# Altium integrated library Diodes - TVS.IntLib: 5379 symbols (part 5 of 122)
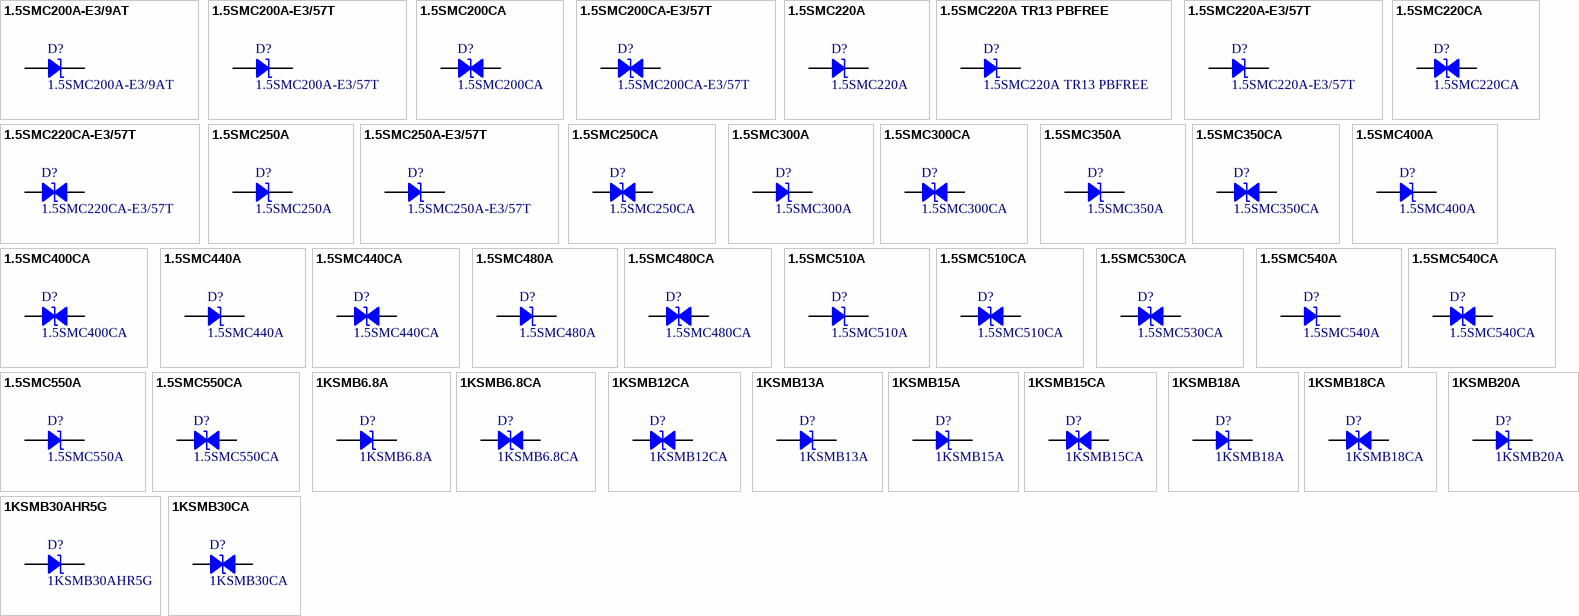
[diagram p138: symbols 1.5SMC200A-E3/9AT to 1KSMB30CA]

## 1.5SMC300CA
designator D?
TVS DIODE 256V 414V DO214AB; Manufacturer: Littelfuse Inc.; Bidirectional Channels: 1; Current - Peak Pulse (10/1000µs): 3.7A; Power Line Protection: No; Power - Peak Pulse: 1500W (1.5kW); Type: Zener; Voltage - Breakdown (Min): 285V; Part Number: 1.5SMC300CA; Applications: General Purpose; ComponentLink1Description: Datasheet; ComponentLink1URL: https://www.littelfuse.com/~/media/electronics/datasheets/tvs_diodes/littelfuse_tvs_diode_1_5smc_datasheet.pdf.pdf; ComponentLink2Description: DigiKey Link; ComponentLink2URL: http://digikey.com/product-detail/en/littelfuse-inc/1.5SMC300CA/1.5SMC300CACT-ND/2770259; LastUpdated: 9/2/2020 1:28:06 AM; Lifecycle Status: Active; Minimum Order: 1; Mounting Type: Surface Mount; Operating Temperature: -55°C ~ 150°C (TJ); Package / Case: DO-214AB, SMC; Packaging: TapeAndReel; PartId: 8450; Part Status: Active; Price: 0.36; Series: 1.5SMC; Supplier 1: DigiKey; Supplier Part Number 1: 1.5SMC300CACT-ND; Supplier Device Package: DO-214AB (SMCJ); Voltage - Clamping (Max) @ Ipp: 414V; Voltage - Reverse Standoff (Typ): 256V
footprint DO214AB SMC
pins: 1, 2

## 1.5SMC350A
designator D?
TVS DIODE 300V 482V DO214AB; Manufacturer: Littelfuse Inc.; Current - Peak Pulse (10/1000µs): 3.2A; Power Line Protection: No; Power - Peak Pulse: 1500W (1.5kW); Type: Zener; Unidirectional Channels: 1; Voltage - Breakdown (Min): 332V; Part Number: 1.5SMC350A; Applications: General Purpose; ComponentLink1Description: Datasheet; ComponentLink1URL: https://www.littelfuse.com/~/media/electronics/datasheets/tvs_diodes/littelfuse_tvs_diode_1_5smc_datasheet.pdf.pdf; ComponentLink2Description: DigiKey Link; ComponentLink2URL: http://digikey.com/product-detail/en/littelfuse-inc/1.5SMC350A/1.5SMC350ACT-ND/2745253; LastUpdated: 9/2/2020 1:19:59 AM; Lifecycle Status: Active; Minimum Order: 1; Mounting Type: Surface Mount; Operating Temperature: -55°C ~ 150°C (TJ); Package / Case: DO-214AB, SMC; Packaging: TapeAndReel; PartId: 6355; Part Status: Active; Price: 0.37; Series: 1.5SMC; Supplier 1: DigiKey; Supplier Part Number 1: 1.5SMC350ACT-ND; Supplier Device Package: DO-214AB (SMCJ); Voltage - Clamping (Max) @ Ipp: 482V; Voltage - Reverse Standoff (Typ): 300V
footprint DO214AB SMC
pins: 1, 2

## 1.5SMC350CA
designator D?
TVS DIODE 300V 482V DO214AB; Manufacturer: Littelfuse Inc.; Bidirectional Channels: 1; Current - Peak Pulse (10/1000µs): 3.2A; Power Line Protection: No; Power - Peak Pulse: 1500W (1.5kW); Type: Zener; Voltage - Breakdown (Min): 332V; Part Number: 1.5SMC350CA; Applications: General Purpose; ComponentLink1Description: Datasheet; ComponentLink1URL: https://www.littelfuse.com/~/media/electronics/datasheets/tvs_diodes/littelfuse_tvs_diode_1_5smc_datasheet.pdf.pdf; ComponentLink2Description: DigiKey Link; ComponentLink2URL: http://digikey.com/product-detail/en/littelfuse-inc/1.5SMC350CA/1.5SMC350CACT-ND/2770260; LastUpdated: 9/2/2020 1:28:04 AM; Lifecycle Status: Active; Minimum Order: 1; Mounting Type: Surface Mount; Operating Temperature: -55°C ~ 150°C (TJ); Package / Case: DO-214AB, SMC; Packaging: TapeAndReel; PartId: 8265; Part Status: Active; Price: 0.40; Series: 1.5SMC; Supplier 1: DigiKey; Supplier Part Number 1: 1.5SMC350CACT-ND; Supplier Device Package: DO-214AB (SMCJ); Voltage - Clamping (Max) @ Ipp: 482V; Voltage - Reverse Standoff (Typ): 300V
footprint DO214AB SMC
pins: 1, 2

## 1.5SMC400A
designator D?
TVS DIODE 342V 548V DO214AB; Manufacturer: Littelfuse Inc.; Current - Peak Pulse (10/1000µs): 2.8A; Power Line Protection: No; Power - Peak Pulse: 1500W (1.5kW); Type: Zener; Unidirectional Channels: 1; Voltage - Breakdown (Min): 380V; Part Number: 1.5SMC400A; Applications: General Purpose; ComponentLink1Description: Datasheet; ComponentLink1URL: https://www.littelfuse.com/~/media/electronics/datasheets/tvs_diodes/littelfuse_tvs_diode_1_5smc_datasheet.pdf.pdf; ComponentLink2Description: DigiKey Link; ComponentLink2URL: http://digikey.com/product-detail/en/littelfuse-inc/1.5SMC400A/1.5SMC400ACT-ND/2770261; LastUpdated: 9/2/2020 1:20:04 AM; Lifecycle Status: Active; Minimum Order: 1; Mounting Type: Surface Mount; Operating Temperature: -55°C ~ 150°C (TJ); Package / Case: DO-214AB, SMC; Packaging: TapeAndReel; PartId: 6858; Part Status: Active; Price: 0.37; Series: 1.5SMC; Supplier 1: DigiKey; Supplier Part Number 1: 1.5SMC400ACT-ND; Supplier Device Package: DO-214AB (SMCJ); Voltage - Clamping (Max) @ Ipp: 548V; Voltage - Reverse Standoff (Typ): 342V
footprint DO214AB SMC
pins: 1, 2

## 1.5SMC400CA
designator D?
TVS DIODE 342V 548V DO214AB; Manufacturer: Littelfuse Inc.; Bidirectional Channels: 1; Current - Peak Pulse (10/1000µs): 2.8A; Power Line Protection: No; Power - Peak Pulse: 1500W (1.5kW); Type: Zener; Voltage - Breakdown (Min): 380V; Part Number: 1.5SMC400CA; Applications: General Purpose; ComponentLink1Description: Datasheet; ComponentLink1URL: https://www.littelfuse.com/~/media/electronics/datasheets/tvs_diodes/littelfuse_tvs_diode_1_5smc_datasheet.pdf.pdf; ComponentLink2Description: DigiKey Link; ComponentLink2URL: http://digikey.com/product-detail/en/littelfuse-inc/1.5SMC400CA/1.5SMC400CACT-ND/2770262; LastUpdated: 9/2/2020 1:28:02 AM; Lifecycle Status: Active; Minimum Order: 1; Mounting Type: Surface Mount; Operating Temperature: -55°C ~ 150°C (TJ); Package / Case: DO-214AB, SMC; Packaging: Unknown; PartId: 8001; Part Status: Active; Price: 0.29; Series: 1.5SMC; Supplier 1: DigiKey; Supplier Part Number 1: 1.5SMC400CACT-ND; Supplier Device Package: DO-214AB (SMCJ); Voltage - Clamping (Max) @ Ipp: 548V; Voltage - Reverse Standoff (Typ): 342V
footprint DO214AB SMC
pins: 1, 2

## 1.5SMC440A
designator D?
TVS DIODE 376V 602V DO214AB; Manufacturer: Littelfuse Inc.; Current - Peak Pulse (10/1000µs): 2.5A; Power Line Protection: No; Power - Peak Pulse: 1500W (1.5kW); Type: Zener; Unidirectional Channels: 1; Voltage - Breakdown (Min): 418V; Part Number: 1.5SMC440A; Applications: General Purpose; ComponentLink1Description: Datasheet; ComponentLink1URL: https://www.littelfuse.com/~/media/electronics/datasheets/tvs_diodes/littelfuse_tvs_diode_1_5smc_datasheet.pdf.pdf; ComponentLink2Description: DigiKey Link; ComponentLink2URL: http://digikey.com/product-detail/en/littelfuse-inc/1.5SMC440A/1.5SMC440ACT-ND/2745254; LastUpdated: 9/2/2020 1:19:59 AM; Lifecycle Status: Active; Minimum Order: 1; Mounting Type: Surface Mount; Operating Temperature: -55°C ~ 150°C (TJ); Package / Case: DO-214AB, SMC; Packaging: TapeAndReel; PartId: 6356; Part Status: Active; Price: 0.37; Series: 1.5SMC; Supplier 1: DigiKey; Supplier Part Number 1: 1.5SMC440ACT-ND; Supplier Device Package: DO-214AB (SMCJ); Voltage - Clamping (Max) @ Ipp: 602V; Voltage - Reverse Standoff (Typ): 376V
footprint DO214AB SMC
pins: 1, 2

## 1.5SMC440CA
designator D?
TVS DIODE 376V 602V DO214AB; Manufacturer: Littelfuse Inc.; Bidirectional Channels: 1; Current - Peak Pulse (10/1000µs): 2.5A; Power Line Protection: No; Power - Peak Pulse: 1500W (1.5kW); Type: Zener; Voltage - Breakdown (Min): 418V; Part Number: 1.5SMC440CA; Applications: General Purpose; ComponentLink1Description: Datasheet; ComponentLink1URL: https://www.littelfuse.com/~/media/electronics/datasheets/tvs_diodes/littelfuse_tvs_diode_1_5smc_datasheet.pdf.pdf; ComponentLink2Description: DigiKey Link; ComponentLink2URL: http://digikey.com/product-detail/en/littelfuse-inc/1.5SMC440CA/1.5SMC440CACT-ND/2745255; LastUpdated: 9/2/2020 1:28:04 AM; Lifecycle Status: Active; Minimum Order: 1; Mounting Type: Surface Mount; Operating Temperature: -55°C ~ 150°C (TJ); Package / Case: DO-214AB, SMC; Packaging: TapeAndReel; PartId: 8164; Part Status: Active; Price: 0.40; Series: 1.5SMC; Supplier 1: DigiKey; Supplier Part Number 1: 1.5SMC440CACT-ND; Supplier Device Package: DO-214AB (SMCJ); Voltage - Clamping (Max) @ Ipp: 602V; Voltage - Reverse Standoff (Typ): 376V
footprint DO214AB SMC
pins: 1, 2

## 1.5SMC480A
designator D?
TVS DIODE 408V 658V DO214AB; Manufacturer: Littelfuse Inc.; Current - Peak Pulse (10/1000µs): 2.3A; Power Line Protection: No; Power - Peak Pulse: 1500W (1.5kW); Type: Zener; Unidirectional Channels: 1; Voltage - Breakdown (Min): 456V; Part Number: 1.5SMC480A; Applications: General Purpose; ComponentLink1Description: Datasheet; ComponentLink1URL: https://www.littelfuse.com/~/media/electronics/datasheets/tvs_diodes/littelfuse_tvs_diode_1_5smc_datasheet.pdf.pdf; ComponentLink2Description: DigiKey Link; ComponentLink2URL: http://digikey.com/product-detail/en/littelfuse-inc/1.5SMC480A/1.5SMC480ACT-ND/2770263; LastUpdated: 9/2/2020 1:20:01 AM; Lifecycle Status: Active; Minimum Order: 1; Mounting Type: Surface Mount; Operating Temperature: -55°C ~ 150°C (TJ); Package / Case: DO-214AB, SMC; Packaging: TapeAndReel; PartId: 6530; Part Status: Active; Price: 0.37; Series: 1.5SMC; Supplier 1: DigiKey; Supplier Part Number 1: 1.5SMC480ACT-ND; Supplier Device Package: DO-214AB (SMCJ); Voltage - Clamping (Max) @ Ipp: 658V; Voltage - Reverse Standoff (Typ): 408V
footprint DO214AB SMC
pins: 1, 2

## 1.5SMC480CA
designator D?
TVS DIODE 408V 658V DO214AB; Manufacturer: Littelfuse Inc.; Bidirectional Channels: 1; Current - Peak Pulse (10/1000µs): 2.3A; Power Line Protection: No; Power - Peak Pulse: 1500W (1.5kW); Type: Zener; Voltage - Breakdown (Min): 456V; Part Number: 1.5SMC480CA; Applications: General Purpose; ComponentLink1Description: Datasheet; ComponentLink1URL: https://www.littelfuse.com/~/media/electronics/datasheets/tvs_diodes/littelfuse_tvs_diode_1_5smc_datasheet.pdf.pdf; ComponentLink2Description: DigiKey Link; ComponentLink2URL: http://digikey.com/product-detail/en/littelfuse-inc/1.5SMC480CA/1.5SMC480CACT-ND/2770264; LastUpdated: 9/2/2020 1:28:04 AM; Lifecycle Status: Active; Minimum Order: 1; Mounting Type: Surface Mount; Operating Temperature: -55°C ~ 150°C (TJ); Package / Case: DO-214AB, SMC; Packaging: TapeAndReel; PartId: 8266; Part Status: Active; Price: 0.40; Series: 1.5SMC; Supplier 1: DigiKey; Supplier Part Number 1: 1.5SMC480CACT-ND; Supplier Device Package: DO-214AB (SMCJ); Voltage - Clamping (Max) @ Ipp: 658V; Voltage - Reverse Standoff (Typ): 408V
footprint DO214AB SMC
pins: 1, 2

## 1.5SMC510A
designator D?
TVS DIODE 434V 698V DO214AB; Manufacturer: Bourns Inc.; Current - Peak Pulse (10/1000µs): 2.1A; Power Line Protection: No; Power - Peak Pulse: 1500W (1.5kW); Type: Zener; Unidirectional Channels: 1; Voltage - Breakdown (Min): 485V; Part Number: 1.5SMC510A; Applications: General Purpose; ComponentLink1Description: Datasheet; ComponentLink1URL: https://www.bourns.com/data/global/pdfs/1.5SMC.pdf; ComponentLink2Description: DigiKey Link; ComponentLink2URL: http://digikey.com/product-detail/en/bourns-inc/1.5SMC510A/1.5SMC510ABBCT-ND/6708186; LastUpdated: 9/2/2020 1:20:01 AM; Lifecycle Status: Active; Minimum Order: 1; Mounting Type: Surface Mount; Operating Temperature: -55°C ~ 150°C (TJ); Package / Case: DO-214AB, SMC; Packaging: TapeAndReel; PartId: 6482; Part Status: Active; Price: 0.33; Series: -; Supplier 1: DigiKey; Supplier Part Number 1: 1.5SMC510ABBCT-ND; Supplier Device Package: DO-214AB (SMC); Voltage - Clamping (Max) @ Ipp: 698V; Voltage - Reverse Standoff (Typ): 434V
footprint DO214AB SMC
pins: 1, 2

## 1.5SMC510CA
designator D?
TVS DIODE 434V 698V DO214AB; Manufacturer: Littelfuse Inc.; Bidirectional Channels: 1; Current - Peak Pulse (10/1000µs): 2.1A; Power Line Protection: No; Power - Peak Pulse: 1500W (1.5kW); Type: Zener; Voltage - Breakdown (Min): 485V; Part Number: 1.5SMC510CA; Applications: General Purpose; ComponentLink1Description: Datasheet; ComponentLink1URL: https://www.littelfuse.com/~/media/electronics/datasheets/tvs_diodes/littelfuse_tvs_diode_1_5smc_datasheet.pdf.pdf; ComponentLink2Description: DigiKey Link; ComponentLink2URL: http://digikey.com/product-detail/en/littelfuse-inc/1.5SMC510CA/1.5SMC510CACT-ND/2745256; LastUpdated: 9/2/2020 1:28:04 AM; Lifecycle Status: Active; Minimum Order: 1; Mounting Type: Surface Mount; Operating Temperature: -55°C ~ 150°C (TJ); Package / Case: DO-214AB, SMC; Packaging: TapeAndReel; PartId: 8267; Part Status: Active; Price: 0.40; Series: 1.5SMC; Supplier 1: DigiKey; Supplier Part Number 1: 1.5SMC510CACT-ND; Supplier Device Package: DO-214AB (SMCJ); Voltage - Clamping (Max) @ Ipp: 698V; Voltage - Reverse Standoff (Typ): 434V
footprint DO214AB SMC
pins: 1, 2

## 1.5SMC530CA
designator D?
TVS DIODE 477V 725V DO214AB; Manufacturer: Littelfuse Inc.; Bidirectional Channels: 1; Current - Peak Pulse (10/1000µs): 2.1A; Power Line Protection: No; Power - Peak Pulse: 1500W (1.5kW); Type: Zener; Voltage - Breakdown (Min): 503.5V; Part Number: 1.5SMC530CA; Applications: General Purpose; ComponentLink1Description: Datasheet; ComponentLink1URL: https://www.littelfuse.com/~/media/electronics/datasheets/tvs_diodes/littelfuse_tvs_diode_1_5smc_datasheet.pdf.pdf; ComponentLink2Description: DigiKey Link; ComponentLink2URL: http://digikey.com/product-detail/en/littelfuse-inc/1.5SMC530CA/1.5SMC530CACT-ND/2770266; LastUpdated: 9/2/2020 1:28:01 AM; Lifecycle Status: Active; Minimum Order: 1; Mounting Type: Surface Mount; Operating Temperature: -55°C ~ 150°C (TJ); Package / Case: DO-214AB, SMC; Packaging: TapeAndReel; PartId: 7915; Part Status: Active; Price: 0.40; Series: 1.5SMC; Supplier 1: DigiKey; Supplier Part Number 1: 1.5SMC530CACT-ND; Supplier Device Package: DO-214AB (SMCJ); Voltage - Clamping (Max) @ Ipp: 725V; Voltage - Reverse Standoff (Typ): 477V
footprint DO214AB SMC
pins: 1, 2

## 1.5SMC540A
designator D?
TVS DIODE 486V 740V DO214AB; Manufacturer: Littelfuse Inc.; Current - Peak Pulse (10/1000µs): 2A; Power Line Protection: No; Power - Peak Pulse: 1500W (1.5kW); Type: Zener; Unidirectional Channels: 1; Voltage - Breakdown (Min): 513V; Part Number: 1.5SMC540A; Applications: General Purpose; ComponentLink1Description: Datasheet; ComponentLink1URL: https://www.littelfuse.com/~/media/electronics/datasheets/tvs_diodes/littelfuse_tvs_diode_1_5smc_datasheet.pdf.pdf; ComponentLink2Description: DigiKey Link; ComponentLink2URL: http://digikey.com/product-detail/en/littelfuse-inc/1.5SMC540A/1.5SMC540ACT-ND/2770267; LastUpdated: 9/2/2020 1:20:03 AM; Lifecycle Status: Active; Minimum Order: 1; Mounting Type: Surface Mount; Operating Temperature: -55°C ~ 150°C (TJ); Package / Case: DO-214AB, SMC; Packaging: TapeAndReel; PartId: 6659; Part Status: Active; Price: 0.37; Series: 1.5SMC; Supplier 1: DigiKey; Supplier Part Number 1: 1.5SMC540ACT-ND; Supplier Device Package: DO-214AB (SMCJ); Voltage - Clamping (Max) @ Ipp: 740V; Voltage - Reverse Standoff (Typ): 486V
footprint DO214AB SMC
pins: 1, 2

## 1.5SMC540CA
designator D?
TVS DIODE 486V 740V DO214AB; Manufacturer: Littelfuse Inc.; Bidirectional Channels: 1; Current - Peak Pulse (10/1000µs): 2A; Power Line Protection: No; Power - Peak Pulse: 1500W (1.5kW); Type: Zener; Voltage - Breakdown (Min): 513V; Part Number: 1.5SMC540CA; Applications: General Purpose; ComponentLink1Description: Datasheet; ComponentLink1URL: https://www.littelfuse.com/~/media/electronics/datasheets/tvs_diodes/littelfuse_tvs_diode_1_5smc_datasheet.pdf.pdf; ComponentLink2Description: DigiKey Link; ComponentLink2URL: http://digikey.com/product-detail/en/littelfuse-inc/1.5SMC540CA/1.5SMC540CACT-ND/2770268; LastUpdated: 9/2/2020 1:28:08 AM; Lifecycle Status: Active; Minimum Order: 1; Mounting Type: Surface Mount; Operating Temperature: -55°C ~ 150°C (TJ); Package / Case: DO-214AB, SMC; Packaging: TapeAndReel; PartId: 8654; Part Status: Active; Price: 0.40; Series: 1.5SMC; Supplier 1: DigiKey; Supplier Part Number 1: 1.5SMC540CACT-ND; Supplier Device Package: DO-214AB (SMCJ); Voltage - Clamping (Max) @ Ipp: 740V; Voltage - Reverse Standoff (Typ): 486V
footprint DO214AB SMC
pins: 1, 2

## 1.5SMC550A
designator D?
TVS DIODE 495V 760V DO214AB; Manufacturer: Littelfuse Inc.; Current - Peak Pulse (10/1000µs): 2A; Power Line Protection: No; Power - Peak Pulse: 1500W (1.5kW); Type: Zener; Unidirectional Channels: 1; Voltage - Breakdown (Min): 522.5V; Part Number: 1.5SMC550A; Applications: General Purpose; ComponentLink1Description: Datasheet; ComponentLink1URL: https://www.littelfuse.com/~/media/electronics/datasheets/tvs_diodes/littelfuse_tvs_diode_1_5smc_datasheet.pdf.pdf; ComponentLink2Description: DigiKey Link; ComponentLink2URL: http://digikey.com/product-detail/en/littelfuse-inc/1.5SMC550A/1.5SMC550ACT-ND/2770269; LastUpdated: 9/2/2020 1:19:59 AM; Lifecycle Status: Active; Minimum Order: 1; Mounting Type: Surface Mount; Operating Temperature: -55°C ~ 150°C (TJ); Package / Case: DO-214AB, SMC; Packaging: TapeAndReel; PartId: 6354; Part Status: Active; Price: 0.37; Series: 1.5SMC; Supplier 1: DigiKey; Supplier Part Number 1: 1.5SMC550ACT-ND; Supplier Device Package: DO-214AB (SMCJ); Voltage - Clamping (Max) @ Ipp: 760V; Voltage - Reverse Standoff (Typ): 495V
footprint DO214AB SMC
pins: 1, 2

## 1.5SMC550CA
designator D?
TVS DIODE 495V 760V DO214AB; Manufacturer: Bourns Inc.; Bidirectional Channels: 1; Current - Peak Pulse (10/1000µs): 2A; Power Line Protection: No; Power - Peak Pulse: 1500W (1.5kW); Type: Zener; Voltage - Breakdown (Min): 522.5V; Part Number: 1.5SMC550CA; Applications: General Purpose; ComponentLink1Description: Datasheet; ComponentLink1URL: https://www.bourns.com/data/global/pdfs/1.5SMC.pdf; ComponentLink2Description: DigiKey Link; ComponentLink2URL: http://digikey.com/product-detail/en/bourns-inc/1.5SMC550CA/1.5SMC550CABBCT-ND/6708190; LastUpdated: 9/2/2020 1:28:02 AM; Lifecycle Status: Active; Minimum Order: 1; Mounting Type: Surface Mount; Operating Temperature: -55°C ~ 150°C (TJ); Package / Case: DO-214AB, SMC; Packaging: TapeAndReel; PartId: 8004; Part Status: Active; Price: 0.36; Series: -; Supplier 1: DigiKey; Supplier Part Number 1: 1.5SMC550CABBCT-ND; Supplier Device Package: DO-214AB (SMC); Voltage - Clamping (Max) @ Ipp: 760V; Voltage - Reverse Standoff (Typ): 495V
footprint DO214AB SMC
pins: 1, 2

## 1KSMB6.8A
designator D?
TVS DIODE 5.8V 10.5V DO214AA; Manufacturer: Littelfuse Inc.; Current - Peak Pulse (10/1000µs): 95.2A; Power Line Protection: No; Power - Peak Pulse: 1000W (1kW); Type: Zener; Unidirectional Channels: 1; Voltage - Breakdown (Min): 6.45V; Part Number: 1KSMB6.8A; Applications: General Purpose; ComponentLink1Description: Datasheet; ComponentLink1URL: https://www.littelfuse.com/~/media/electronics/datasheets/tvs_diodes/littelfuse_tvs_diode_1ksmb_datasheet.pdf.pdf; ComponentLink2Description: DigiKey Link; ComponentLink2URL: http://digikey.com/product-detail/en/littelfuse-inc/1KSMB6.8A/1KSMB6.8ACT-ND/2699826; LastUpdated: 9/2/2020 1:19:45 AM; Lifecycle Status: Active; Minimum Order: 1; Mounting Type: Surface Mount; Operating Temperature: -55°C ~ 150°C (TJ); Package / Case: DO-214AA, SMB; Packaging: TapeAndReel; PartId: 10735; Part Status: Active; Price: 0.25; Series: 1KSMB; Supplier 1: DigiKey; Supplier Part Number 1: 1KSMB6.8ACT-ND; Supplier Device Package: DO-214AA (SMBJ); Voltage - Clamping (Max) @ Ipp: 10.5V; Voltage - Reverse Standoff (Typ): 5.8V
footprint DO214AA SMB
pins: 1, 2

## 1KSMB6.8CA
designator D?
TVS DIODE 5.8V 10.5V DO214AA; Manufacturer: Littelfuse Inc.; Bidirectional Channels: 1; Current - Peak Pulse (10/1000µs): 95.2A; Power Line Protection: No; Power - Peak Pulse: 1000W (1kW); Type: Zener; Voltage - Breakdown (Min): 6.45V; Part Number: 1KSMB6.8CA; Applications: General; ComponentLink1Description: Datasheet; ComponentLink1URL: https://www.littelfuse.com/~/media/electronics/datasheets/tvs_diodes/littelfuse_tvs_diode_1ksmb_datasheet.pdf.pdf; ComponentLink2Description: DigiKey Link; ComponentLink2URL: http://digikey.com/product-detail/en/littelfuse-inc/1KSMB6.8CA/1KSMB6.8CACT-ND/2699827; LastUpdated: 9/2/2020 1:28:16 AM; Lifecycle Status: Active; Minimum Order: 1; Mounting Type: Surface Mount; Operating Temperature: -55°C ~ 150°C (TJ); Package / Case: DO-214AA, SMB; Packaging: TapeAndReel; PartId: 8896; Part Status: Active; Price: 0.21; Series: 1KSMB; Supplier 1: DigiKey; Supplier Part Number 1: 1KSMB6.8CACT-ND; Supplier Device Package: DO-214AA (SMBJ); Voltage - Clamping (Max) @ Ipp: 10.5V; Voltage - Reverse Standoff (Typ): 5.8V
footprint DO214AA SMB
pins: 1, 2

## 1KSMB12CA
designator D?
TVS DIODE 10.2V 16.7V DO214AA; Manufacturer: Littelfuse Inc.; Bidirectional Channels: 1; Current - Peak Pulse (10/1000µs): 59.9A; Power Line Protection: No; Power - Peak Pulse: 1000W (1kW); Type: Zener; Voltage - Breakdown (Min): 11.4V; Part Number: 1KSMB12CA; Applications: General Purpose; ComponentLink1Description: Datasheet; ComponentLink1URL: https://www.littelfuse.com/~/media/electronics/datasheets/tvs_diodes/littelfuse_tvs_diode_1ksmb_datasheet.pdf.pdf; ComponentLink2Description: DigiKey Link; ComponentLink2URL: http://digikey.com/product-detail/en/littelfuse-inc/1KSMB12CA/F7080CT-ND/5723507; LastUpdated: 9/2/2020 1:28:16 AM; Lifecycle Status: Active; Minimum Order: 1; Mounting Type: Surface Mount; Operating Temperature: -55°C ~ 150°C (TJ); Package / Case: DO-214AA, SMB; Packaging: TapeAndReel; PartId: 8901; Part Status: Active; Price: 0.27; Series: 1KSMB; Supplier 1: DigiKey; Supplier Part Number 1: F7080CT-ND; Supplier Device Package: DO-214AA (SMBJ); Voltage - Clamping (Max) @ Ipp: 16.7V; Voltage - Reverse Standoff (Typ): 10.2V
footprint DO214AA SMB
pins: 1, 2

## 1KSMB13A
designator D?
TVS DIODE 11.1V 18.2V DO214AA; Manufacturer: Littelfuse Inc.; Current - Peak Pulse (10/1000µs): 54.9A; Power Line Protection: No; Power - Peak Pulse: 1000W (1kW); Type: Zener; Unidirectional Channels: 1; Voltage - Breakdown (Min): 12.4V; Part Number: 1KSMB13A; Applications: General Purpose; ComponentLink1Description: Datasheet; ComponentLink1URL: https://www.littelfuse.com/~/media/electronics/datasheets/tvs_diodes/littelfuse_tvs_diode_1ksmb_datasheet.pdf.pdf; ComponentLink2Description: DigiKey Link; ComponentLink2URL: http://digikey.com/product-detail/en/littelfuse-inc/1KSMB13A/F6254CT-ND/4331761; LastUpdated: 9/2/2020 1:19:43 AM; Lifecycle Status: Active; Minimum Order: 1; Mounting Type: Surface Mount; Operating Temperature: -55°C ~ 150°C (TJ); Package / Case: DO-214AA, SMB; Packaging: TapeAndReel; PartId: 10570; Part Status: Active; Price: 0.25; Series: 1KSMB; Supplier 1: DigiKey; Supplier Part Number 1: F6254CT-ND; Supplier Device Package: DO-214AA (SMBJ); Voltage - Clamping (Max) @ Ipp: 18.2V; Voltage - Reverse Standoff (Typ): 11.1V
footprint DO214AA SMB
pins: 1, 2

## 1KSMB15A
designator D?
TVS DIODE 12.8V 21.2V DO214AA; Manufacturer: Littelfuse Inc.; Current - Peak Pulse (10/1000µs): 47.2A; Power Line Protection: No; Power - Peak Pulse: 1000W (1kW); Type: Zener; Unidirectional Channels: 1; Voltage - Breakdown (Min): 14.3V; Part Number: 1KSMB15A; Applications: General Purpose; ComponentLink1Description: Datasheet; ComponentLink1URL: https://www.littelfuse.com/~/media/electronics/datasheets/tvs_diodes/littelfuse_tvs_diode_1ksmb_datasheet.pdf.pdf; ComponentLink2Description: DigiKey Link; ComponentLink2URL: http://digikey.com/product-detail/en/littelfuse-inc/1KSMB15A/1KSMB15ACT-ND/2699823; LastUpdated: 9/2/2020 1:19:43 AM; Lifecycle Status: Active; Minimum Order: 1; Mounting Type: Surface Mount; Operating Temperature: -55°C ~ 150°C (TJ); Package / Case: DO-214AA, SMB; Packaging: TapeAndReel; PartId: 10566; Part Status: Active; Price: 0.25; Series: 1KSMB; Supplier 1: DigiKey; Supplier Part Number 1: 1KSMB15ACT-ND; Supplier Device Package: DO-214AA (SMBJ); Voltage - Clamping (Max) @ Ipp: 21.2V; Voltage - Reverse Standoff (Typ): 12.8V
footprint DO214AA SMB
pins: 1, 2

## 1KSMB15CA
designator D?
TVS DIODE 12.8V 21.2V DO214AA; Manufacturer: Littelfuse Inc.; Bidirectional Channels: 1; Current - Peak Pulse (10/1000µs): 47.2A; Power Line Protection: No; Power - Peak Pulse: 1000W (1kW); Type: Zener; Voltage - Breakdown (Min): 14.3V; Part Number: 1KSMB15CA; Applications: General Purpose; ComponentLink1Description: Datasheet; ComponentLink1URL: https://www.littelfuse.com/~/media/electronics/datasheets/tvs_diodes/littelfuse_tvs_diode_1ksmb_datasheet.pdf.pdf; ComponentLink2Description: DigiKey Link; ComponentLink2URL: http://digikey.com/product-detail/en/littelfuse-inc/1KSMB15CA/F10828CT-ND/8109572; LastUpdated: 9/2/2020 1:28:16 AM; Lifecycle Status: Active; Minimum Order: 1; Mounting Type: Surface Mount; Operating Temperature: -55°C ~ 150°C (TJ); Package / Case: DO-214AA, SMB; Packaging: TapeAndReel; PartId: 8900; Part Status: Active; Price: 0.27; Series: 1KSMB; Supplier 1: DigiKey; Supplier Part Number 1: F10828CT-ND; Supplier Device Package: DO-214AA (SMBJ); Voltage - Clamping (Max) @ Ipp: 21.2V; Voltage - Reverse Standoff (Typ): 12.8V
footprint DO214AA SMB
pins: 1, 2

## 1KSMB18A
designator D?
TVS DIODE 15.3V 25.5V DO214AA; Manufacturer: Littelfuse Inc.; Current - Peak Pulse (10/1000µs): 39.2A; Power Line Protection: No; Power - Peak Pulse: 1000W (1kW); Type: Zener; Unidirectional Channels: 1; Voltage - Breakdown (Min): 17.1V; Part Number: 1KSMB18A; Applications: General Purpose; ComponentLink1Description: Datasheet; ComponentLink1URL: https://www.littelfuse.com/~/media/electronics/datasheets/tvs_diodes/littelfuse_tvs_diode_1ksmb_datasheet.pdf.pdf; ComponentLink2Description: DigiKey Link; ComponentLink2URL: http://digikey.com/product-detail/en/littelfuse-inc/1KSMB18A/1KSMB18ACT-ND/2699824; LastUpdated: 9/2/2020 1:19:43 AM; Lifecycle Status: Active; Minimum Order: 1; Mounting Type: Surface Mount; Operating Temperature: -55°C ~ 150°C (TJ); Package / Case: DO-214AA, SMB; Packaging: TapeAndReel; PartId: 10567; Part Status: Active; Price: 0.25; Series: 1KSMB; Supplier 1: DigiKey; Supplier Part Number 1: 1KSMB18ACT-ND; Supplier Device Package: DO-214AA (SMBJ); Voltage - Clamping (Max) @ Ipp: 25.5V; Voltage - Reverse Standoff (Typ): 15.3V
footprint DO214AA SMB
pins: 1, 2

## 1KSMB18CA
designator D?
TVS DIODE 15.3V 25.5V DO214AA; Manufacturer: Littelfuse Inc.; Bidirectional Channels: 1; Current - Peak Pulse (10/1000µs): 39.2A; Power Line Protection: No; Power - Peak Pulse: 1000W (1kW); Type: Zener; Voltage - Breakdown (Min): 17.1V; Part Number: 1KSMB18CA; Applications: General Purpose; ComponentLink1Description: Datasheet; ComponentLink1URL: https://www.littelfuse.com/~/media/electronics/datasheets/tvs_diodes/littelfuse_tvs_diode_1ksmb_datasheet.pdf.pdf; ComponentLink2Description: DigiKey Link; ComponentLink2URL: http://digikey.com/product-detail/en/littelfuse-inc/1KSMB18CA/F10829CT-ND/8109573; LastUpdated: 9/2/2020 1:28:21 AM; Lifecycle Status: Active; Minimum Order: 1; Mounting Type: Surface Mount; Operating Temperature: -55°C ~ 150°C (TJ); Package / Case: DO-214AA, SMB; Packaging: TapeAndReel; PartId: 9591; Part Status: Active; Price: 0.27; Series: 1KSMB; Supplier 1: DigiKey; Supplier Part Number 1: F10829CT-ND; Supplier Device Package: DO-214AA (SMBJ); Voltage - Clamping (Max) @ Ipp: 25.5V; Voltage - Reverse Standoff (Typ): 15.3V
footprint DO214AA SMB
pins: 1, 2

## 1KSMB20A
designator D?
TVS DIODE 17.1V 27.7V DO214AA; Manufacturer: Littelfuse Inc.; Current - Peak Pulse (10/1000µs): 36.1A; Power Line Protection: No; Power - Peak Pulse: 1000W (1kW); Type: Zener; Unidirectional Channels: 1; Voltage - Breakdown (Min): 19V; Part Number: 1KSMB20A; Applications: General Purpose; ComponentLink1Description: Datasheet; ComponentLink1URL: https://www.littelfuse.com/~/media/electronics/datasheets/tvs_diodes/littelfuse_tvs_diode_1ksmb_datasheet.pdf.pdf; ComponentLink2Description: DigiKey Link; ComponentLink2URL: http://digikey.com/product-detail/en/littelfuse-inc/1KSMB20A/1KSMB20ACT-ND/2699825; LastUpdated: 9/2/2020 1:19:47 AM; Lifecycle Status: Active; Minimum Order: 1; Mounting Type: Surface Mount; Operating Temperature: -55°C ~ 150°C (TJ); Package / Case: DO-214AA, SMB; Packaging: TapeAndReel; PartId: 10899; Part Status: Active; Price: 0.25; Series: 1KSMB; Supplier 1: DigiKey; Supplier Part Number 1: 1KSMB20ACT-ND; Supplier Device Package: DO-214AA (SMBJ); Voltage - Clamping (Max) @ Ipp: 27.7V; Voltage - Reverse Standoff (Typ): 17.1V
footprint DO214AA SMB
pins: 1, 2

## 1KSMB30AHR5G
designator D?
TVS DIODE 25.6V 41.4V DO214AA; Manufacturer: Taiwan Semiconductor Corporation; Current - Peak Pulse (10/1000µs): 24.2A; Power Line Protection: No; Power - Peak Pulse: 1000W (1kW); Type: Zener; Unidirectional Channels: 1; Voltage - Breakdown (Min): 28.5V; Part Number: 1KSMB30AHR5G; Applications: Automotive; ComponentLink1Description: Datasheet; ComponentLink1URL: https://www.taiwansemi.com/products/datasheet/1KSMB%20SERIES_G1701.pdf; ComponentLink2Description: DigiKey Link; ComponentLink2URL: http://digikey.com/product-detail/en/taiwan-semiconductor-corporation/1KSMB30AHR5G/1KSMB30AHR5GCT-ND/7644277; LastUpdated: 9/2/2020 1:19:51 AM; Lifecycle Status: Active; Minimum Order: 1; Mounting Type: Surface Mount; Operating Temperature: -55°C ~ 175°C (TJ); Package / Case: DO-214AA, SMB; Packaging: TapeAndReel; PartId: 11402; Part Status: Active; Price: 0.23; Series: Automotive, AEC-Q101, 1KSMB; Supplier 1: DigiKey; Supplier Part Number 1: 1KSMB30AHR5GCT-ND; Supplier Device Package: DO-214AA (SMB); Voltage - Clamping (Max) @ Ipp: 41.4V; Voltage - Reverse Standoff (Typ): 25.6V
footprint DO214AA SMB
pins: 1, 2

## 1KSMB30CA
designator D?
TVS DIODE 25.6V 41.4V DO214AA; Manufacturer: Littelfuse Inc.; Bidirectional Channels: 1; Current - Peak Pulse (10/1000µs): 24.2A; Power Line Protection: No; Power - Peak Pulse: 1000W (1kW); Type: Zener; Voltage - Breakdown (Min): 28.5V; Part Number: 1KSMB30CA; Applications: General Purpose; ComponentLink1Description: Datasheet; ComponentLink1URL: https://www.littelfuse.com/~/media/electronics/datasheets/tvs_diodes/littelfuse_tvs_diode_1ksmb_datasheet.pdf.pdf; ComponentLink2Description: DigiKey Link; ComponentLink2URL: http://digikey.com/product-detail/en/littelfuse-inc/1KSMB30CA/18-1KSMB30CACT-ND/12757121; LastUpdated: 8/30/2020 9:07:43 PM; Lifecycle Status: Active; Minimum Order: 1; Mounting Type: Surface Mount; Package / Case: DO-214AA, SMB; Packaging: TapeAndReel; PartId: 11452; Price: 0.25; Series: 1KSMB; Supplier 1: DigiKey; Supplier Part Number 1: 18-1KSMB30CACT-ND; Supplier Device Package: DO-214AA (SMBJ); Voltage - Clamping (Max) @ Ipp: 41.4V; Voltage - Reverse Standoff (Typ): 25.6V
footprint DO214AA SMB
pins: 1, 2

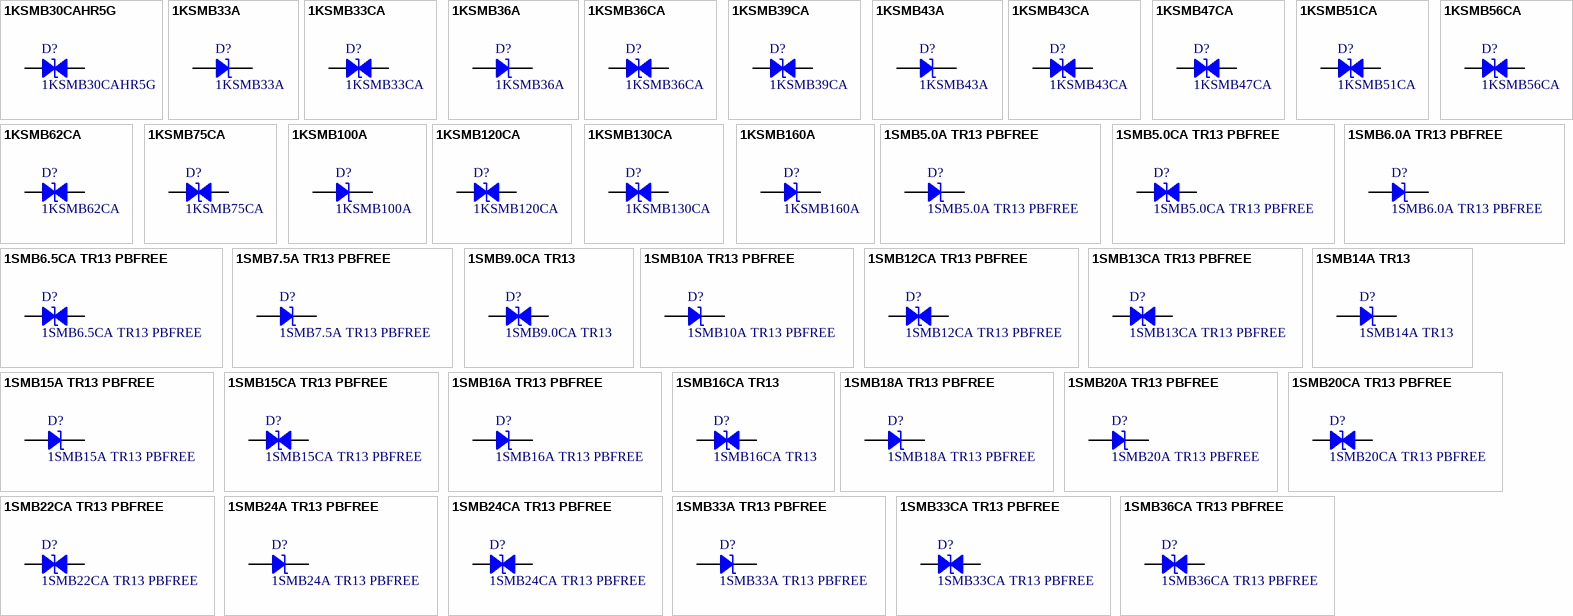
[diagram p5: symbols 1KSMB30CAHR5G to 1SMB36CA TR13 PBFREE]

## 1KSMB30CAHR5G
designator D?
TVS DIODE 25.6V 41.4V DO214AA; Manufacturer: Taiwan Semiconductor Corporation; Bidirectional Channels: 1; Current - Peak Pulse (10/1000µs): 24.2A; Power Line Protection: No; Power - Peak Pulse: 1000W (1kW); Type: Zener; Voltage - Breakdown (Min): 28.5V; Part Number: 1KSMB30CAHR5G; Applications: Automotive; ComponentLink1Description: Datasheet; ComponentLink1URL: https://www.taiwansemi.com/products/datasheet/1KSMB%20SERIES_G1701.pdf; ComponentLink2Description: DigiKey Link; ComponentLink2URL: http://digikey.com/product-detail/en/taiwan-semiconductor-corporation/1KSMB30CAHR5G/1KSMB30CAHR5GCT-ND/7644278; LastUpdated: 9/2/2020 1:28:17 AM; Lifecycle Status: Active; Minimum Order: 1; Mounting Type: Surface Mount; Operating Temperature: -55°C ~ 175°C (TJ); Package / Case: DO-214AA, SMB; Packaging: TapeAndReel; PartId: 9079; Part Status: Active; Price: 0.23; Series: Automotive, AEC-Q101, 1KSMB; Supplier 1: DigiKey; Supplier Part Number 1: 1KSMB30CAHR5GCT-ND; Supplier Device Package: DO-214AA (SMB); Voltage - Clamping (Max) @ Ipp: 41.4V; Voltage - Reverse Standoff (Typ): 25.6V
footprint DO214AA SMB
pins: 1, 2

## 1KSMB33A
designator D?
TVS DIODE 28.2V 45.7V DO214AA; Manufacturer: Littelfuse Inc.; Current - Peak Pulse (10/1000µs): 21.9A; Power Line Protection: No; Power - Peak Pulse: 1000W (1kW); Type: Zener; Unidirectional Channels: 1; Voltage - Breakdown (Min): 31.4V; Part Number: 1KSMB33A; Applications: General Purpose; ComponentLink1Description: Datasheet; ComponentLink1URL: https://www.littelfuse.com/~/media/electronics/datasheets/tvs_diodes/littelfuse_tvs_diode_1ksmb_datasheet.pdf.pdf; ComponentLink2Description: DigiKey Link; ComponentLink2URL: http://digikey.com/product-detail/en/littelfuse-inc/1KSMB33A/F11450CT-ND/9326808; LastUpdated: 9/2/2020 1:19:51 AM; Lifecycle Status: Active; Minimum Order: 1; Mounting Type: Surface Mount; Operating Temperature: -55°C ~ 150°C (TJ); Package / Case: DO-214AA, SMB; Packaging: TapeAndReel; PartId: 11308; Part Status: Active; Price: 0.25; Series: 1KSMB; Supplier 1: DigiKey; Supplier Part Number 1: F11450CT-ND; Supplier Device Package: DO-214AA (SMBJ); Voltage - Clamping (Max) @ Ipp: 45.7V; Voltage - Reverse Standoff (Typ): 28.2V
footprint DO214AA SMB
pins: 1, 2

## 1KSMB33CA
designator D?
TVS DIODE 28.2V 45.7V DO214AA; Manufacturer: Littelfuse Inc.; Bidirectional Channels: 1; Current - Peak Pulse (10/1000µs): 21.9A; Power Line Protection: No; Power - Peak Pulse: 1000W (1kW); Type: Zener; Voltage - Breakdown (Min): 31.4V; Part Number: 1KSMB33CA; Applications: General Purpose; ComponentLink1Description: Datasheet; ComponentLink1URL: https://www.littelfuse.com/~/media/electronics/datasheets/tvs_diodes/littelfuse_tvs_diode_1ksmb_datasheet.pdf.pdf; ComponentLink2Description: DigiKey Link; ComponentLink2URL: http://digikey.com/product-detail/en/littelfuse-inc/1KSMB33CA/1KSMB33CACT-ND/9857572; LastUpdated: 9/2/2020 1:28:22 AM; Lifecycle Status: Active; Minimum Order: 1; Mounting Type: Surface Mount; Operating Temperature: -55°C ~ 150°C (TJ); Package / Case: DO-214AA, SMB; Packaging: TapeAndReel; PartId: 9634; Part Status: Active; Price: 0.27; Series: 1KSMB; Supplier 1: DigiKey; Supplier Part Number 1: 1KSMB33CACT-ND; Supplier Device Package: DO-214AA (SMBJ); Voltage - Clamping (Max) @ Ipp: 45.7V; Voltage - Reverse Standoff (Typ): 28.2V
footprint DO214AA SMB
pins: 1, 2

## 1KSMB36A
designator D?
TVS DIODE 30.8V 49.9V DO214AA; Manufacturer: Littelfuse Inc.; Current - Peak Pulse (10/1000µs): 20A; Power Line Protection: No; Power - Peak Pulse: 1000W (1kW); Type: Zener; Unidirectional Channels: 1; Voltage - Breakdown (Min): 34.2V; Part Number: 1KSMB36A; Applications: General Purpose; ComponentLink1Description: Datasheet; ComponentLink1URL: https://www.littelfuse.com/~/media/electronics/datasheets/tvs_diodes/littelfuse_tvs_diode_1ksmb_datasheet.pdf.pdf; ComponentLink2Description: DigiKey Link; ComponentLink2URL: http://digikey.com/product-detail/en/littelfuse-inc/1KSMB36A/F10830CT-ND/8109574; LastUpdated: 9/2/2020 1:19:51 AM; Lifecycle Status: Active; Minimum Order: 1; Mounting Type: Surface Mount; Operating Temperature: -55°C ~ 150°C (TJ); Package / Case: DO-214AA, SMB; Packaging: TapeAndReel; PartId: 11309; Part Status: Active; Price: 0.25; Series: 1KSMB; Supplier 1: DigiKey; Supplier Part Number 1: F10830CT-ND; Supplier Device Package: DO-214AA (SMBJ); Voltage - Clamping (Max) @ Ipp: 49.9V; Voltage - Reverse Standoff (Typ): 30.8V
footprint DO214AA SMB
pins: 1, 2

## 1KSMB36CA
designator D?
TVS DIODE 30.8V 49.9V DO214AA; Manufacturer: Littelfuse Inc.; Bidirectional Channels: 1; Current - Peak Pulse (10/1000µs): 20A; Power Line Protection: No; Power - Peak Pulse: 1000W (1kW); Type: Zener; Voltage - Breakdown (Min): 34.2V; Part Number: 1KSMB36CA; Applications: General Purpose; ComponentLink1Description: Datasheet; ComponentLink1URL: https://www.littelfuse.com/~/media/electronics/datasheets/tvs_diodes/littelfuse_tvs_diode_1ksmb_datasheet.pdf.pdf; ComponentLink2Description: DigiKey Link; ComponentLink2URL: http://digikey.com/product-detail/en/littelfuse-inc/1KSMB36CA/1KSMB36CACT-ND/2699820; LastUpdated: 9/2/2020 1:28:16 AM; Lifecycle Status: Active; Minimum Order: 1; Mounting Type: Surface Mount; Operating Temperature: -55°C ~ 150°C (TJ); Package / Case: DO-214AA, SMB; Packaging: TapeAndReel; PartId: 8897; Part Status: Active; Price: 0.27; Series: 1KSMB; Supplier 1: DigiKey; Supplier Part Number 1: 1KSMB36CACT-ND; Supplier Device Package: DO-214AA (SMBJ); Voltage - Clamping (Max) @ Ipp: 49.9V; Voltage - Reverse Standoff (Typ): 30.8V
footprint DO214AA SMB
pins: 1, 2

## 1KSMB39CA
designator D?
TVS DIODE 33.3V 53.9V DO214AA; Manufacturer: Littelfuse Inc.; Bidirectional Channels: 1; Current - Peak Pulse (10/1000µs): 18.6A; Power Line Protection: No; Power - Peak Pulse: 1000W (1kW); Type: Zener; Voltage - Breakdown (Min): 37.1V; Part Number: 1KSMB39CA; Applications: General Purpose; ComponentLink1Description: Datasheet; ComponentLink1URL: https://www.littelfuse.com/~/media/electronics/datasheets/tvs_diodes/littelfuse_tvs_diode_1ksmb_datasheet.pdf.pdf; ComponentLink2Description: DigiKey Link; ComponentLink2URL: http://digikey.com/product-detail/en/littelfuse-inc/1KSMB39CA/F11451CT-ND/9326809; LastUpdated: 9/2/2020 1:28:21 AM; Lifecycle Status: Active; Minimum Order: 1; Mounting Type: Surface Mount; Operating Temperature: -55°C ~ 150°C (TJ); Package / Case: DO-214AA, SMB; Packaging: TapeAndReel; PartId: 9592; Part Status: Active; Price: 0.27; Series: 1KSMB; Supplier 1: DigiKey; Supplier Part Number 1: F11451CT-ND; Supplier Device Package: DO-214AA (SMBJ); Voltage - Clamping (Max) @ Ipp: 53.9V; Voltage - Reverse Standoff (Typ): 33.3V
footprint DO214AA SMB
pins: 1, 2

## 1KSMB43A
designator D?
TVS DIODE 36.8V 59.3V DO214AA; Manufacturer: Littelfuse Inc.; Current - Peak Pulse (10/1000µs): 16.9A; Power Line Protection: No; Power - Peak Pulse: 1000W (1kW); Type: Zener; Unidirectional Channels: 1; Voltage - Breakdown (Min): 40.9V; Part Number: 1KSMB43A; Applications: General Purpose; ComponentLink1Description: Datasheet; ComponentLink1URL: https://www.littelfuse.com/~/media/electronics/datasheets/tvs_diodes/littelfuse_tvs_diode_1ksmb_datasheet.pdf.pdf; ComponentLink2Description: DigiKey Link; ComponentLink2URL: http://digikey.com/product-detail/en/littelfuse-inc/1KSMB43A/18-1KSMB43ACT-ND/12756464; LastUpdated: 8/30/2020 9:00:52 PM; Lifecycle Status: Active; Minimum Order: 1; Mounting Type: Surface Mount; Package / Case: DO-214AA, SMB; Packaging: TapeAndReel; PartId: 11442; Price: 0.23; Series: 1KSMB; Supplier 1: DigiKey; Supplier Part Number 1: 18-1KSMB43ACT-ND; Supplier Device Package: DO-214AA (SMBJ); Voltage - Clamping (Max) @ Ipp: 59.3V; Voltage - Reverse Standoff (Typ): 36.8V
footprint DO214AA SMB
pins: 1, 2

## 1KSMB43CA
designator D?
TVS DIODE 36.8V 59.3V DO214AA; Manufacturer: Littelfuse Inc.; Bidirectional Channels: 1; Current - Peak Pulse (10/1000µs): 16.9A; Power Line Protection: No; Power - Peak Pulse: 1000W (1kW); Type: Zener; Voltage - Breakdown (Min): 40.9V; Part Number: 1KSMB43CA; Applications: General Purpose; ComponentLink1Description: Datasheet; ComponentLink1URL: https://www.littelfuse.com/~/media/electronics/datasheets/tvs_diodes/littelfuse_tvs_diode_1ksmb_datasheet.pdf.pdf; ComponentLink2Description: DigiKey Link; ComponentLink2URL: http://digikey.com/product-detail/en/littelfuse-inc/1KSMB43CA/1KSMB43CACT-ND/9857573; LastUpdated: 9/2/2020 1:28:21 AM; Lifecycle Status: Active; Minimum Order: 1; Mounting Type: Surface Mount; Operating Temperature: -55°C ~ 150°C (TJ); Package / Case: DO-214AA, SMB; Packaging: TapeAndReel; PartId: 9590; Part Status: Active; Price: 0.27; Series: 1KSMB; Supplier 1: DigiKey; Supplier Part Number 1: 1KSMB43CACT-ND; Supplier Device Package: DO-214AA (SMBJ); Voltage - Clamping (Max) @ Ipp: 59.3V; Voltage - Reverse Standoff (Typ): 36.8V
footprint DO214AA SMB
pins: 1, 2

## 1KSMB47CA
designator D?
TVS DIODE 40.2V 64.8V DO214AA; Manufacturer: Littelfuse Inc.; Bidirectional Channels: 1; Current - Peak Pulse (10/1000µs): 15.4A; Power Line Protection: No; Power - Peak Pulse: 1000W (1kW); Type: Zener; Voltage - Breakdown (Min): 44.7V; Part Number: 1KSMB47CA; Applications: General Purpose; ComponentLink1Description: Datasheet; ComponentLink1URL: https://www.littelfuse.com/~/media/electronics/datasheets/tvs_diodes/littelfuse_tvs_diode_1ksmb_datasheet.pdf.pdf; ComponentLink2Description: DigiKey Link; ComponentLink2URL: http://digikey.com/product-detail/en/littelfuse-inc/1KSMB47CA/F7143CT-ND/5762330; LastUpdated: 9/2/2020 1:28:16 AM; Lifecycle Status: Active; Minimum Order: 1; Mounting Type: Surface Mount; Operating Temperature: -55°C ~ 150°C (TJ); Package / Case: DO-214AA, SMB; Packaging: TapeAndReel; PartId: 8899; Part Status: Active; Price: 0.27; Series: 1KSMB; Supplier 1: DigiKey; Supplier Part Number 1: F7143CT-ND; Supplier Device Package: DO-214AA (SMBJ); Voltage - Clamping (Max) @ Ipp: 64.8V; Voltage - Reverse Standoff (Typ): 40.2V
footprint DO214AA SMB
pins: 1, 2

## 1KSMB51CA
designator D?
TVS DIODE 43.6V 70.1V DO214AA; Manufacturer: Littelfuse Inc.; Bidirectional Channels: 1; Current - Peak Pulse (10/1000µs): 14.3A; Power Line Protection: No; Power - Peak Pulse: 1000W (1kW); Type: Zener; Voltage - Breakdown (Min): 48.5V; Part Number: 1KSMB51CA; Applications: General Purpose; ComponentLink1Description: Datasheet; ComponentLink1URL: https://www.littelfuse.com/~/media/electronics/datasheets/tvs_diodes/littelfuse_tvs_diode_1ksmb_datasheet.pdf.pdf; ComponentLink2Description: DigiKey Link; ComponentLink2URL: http://digikey.com/product-detail/en/littelfuse-inc/1KSMB51CA/F7144CT-ND/5762331; LastUpdated: 9/2/2020 1:28:17 AM; Lifecycle Status: Active; Minimum Order: 1; Mounting Type: Surface Mount; Operating Temperature: -55°C ~ 150°C (TJ); Package / Case: DO-214AA, SMB; Packaging: TapeAndReel; PartId: 9078; Part Status: Active; Price: 0.30; Series: 1KSMB; Supplier 1: DigiKey; Supplier Part Number 1: F7144CT-ND; Supplier Device Package: DO-214AA (SMBJ); Voltage - Clamping (Max) @ Ipp: 70.1V; Voltage - Reverse Standoff (Typ): 43.6V
footprint DO214AA SMB
pins: 1, 2

## 1KSMB56CA
designator D?
TVS DIODE 47.8V 77V DO214AA; Manufacturer: Littelfuse Inc.; Bidirectional Channels: 1; Current - Peak Pulse (10/1000µs): 13A; Power Line Protection: No; Power - Peak Pulse: 1000W (1kW); Type: Zener; Voltage - Breakdown (Min): 53.2V; Part Number: 1KSMB56CA; Applications: General Purpose; ComponentLink1Description: Datasheet; ComponentLink1URL: https://www.littelfuse.com/~/media/electronics/datasheets/tvs_diodes/littelfuse_tvs_diode_1ksmb_datasheet.pdf.pdf; ComponentLink2Description: DigiKey Link; ComponentLink2URL: http://digikey.com/product-detail/en/littelfuse-inc/1KSMB56CA/18-1KSMB56CACT-ND/12757155; LastUpdated: 8/30/2020 9:07:43 PM; Lifecycle Status: Active; Minimum Order: 1; Mounting Type: Surface Mount; Package / Case: DO-214AA, SMB; Packaging: TapeAndReel; PartId: 11487; Price: 0.28; Series: 1KSMB; Supplier 1: DigiKey; Supplier Part Number 1: 18-1KSMB56CACT-ND; Supplier Device Package: DO-214AA (SMBJ); Voltage - Clamping (Max) @ Ipp: 77V; Voltage - Reverse Standoff (Typ): 47.8V
footprint DO214AA SMB
pins: 1, 2

## 1KSMB62CA
designator D?
TVS DIODE 53V 85V DO214AA; Manufacturer: Littelfuse Inc.; Bidirectional Channels: 1; Current - Peak Pulse (10/1000µs): 11.8A; Power Line Protection: No; Power - Peak Pulse: 1000W (1kW); Type: Zener; Voltage - Breakdown (Min): 58.9V; Part Number: 1KSMB62CA; Applications: General Purpose; ComponentLink1Description: Datasheet; ComponentLink1URL: https://www.littelfuse.com/~/media/electronics/datasheets/tvs_diodes/littelfuse_tvs_diode_1ksmb_datasheet.pdf.pdf; ComponentLink2Description: DigiKey Link; ComponentLink2URL: http://digikey.com/product-detail/en/littelfuse-inc/1KSMB62CA/1KSMB62CACT-ND/9841916; LastUpdated: 9/2/2020 1:28:21 AM; Lifecycle Status: Active; Minimum Order: 1; Mounting Type: Surface Mount; Operating Temperature: -55°C ~ 150°C (TJ); Package / Case: DO-214AA, SMB; Packaging: TapeAndReel; PartId: 9585; Part Status: Active; Price: 0.30; Series: 1KSMB; Supplier 1: DigiKey; Supplier Part Number 1: 1KSMB62CACT-ND; Supplier Device Package: DO-214AA (SMBJ); Voltage - Clamping (Max) @ Ipp: 85V; Voltage - Reverse Standoff (Typ): 53V
footprint DO214AA SMB
pins: 1, 2

## 1KSMB75CA
designator D?
TVS DIODE 64.1V 103V DO214AA; Manufacturer: Littelfuse Inc.; Bidirectional Channels: 1; Current - Peak Pulse (10/1000µs): 9.7A; Power Line Protection: No; Power - Peak Pulse: 1000W (1kW); Type: Zener; Voltage - Breakdown (Min): 71.3V; Part Number: 1KSMB75CA; Applications: General Purpose; ComponentLink1Description: Datasheet; ComponentLink1URL: https://www.littelfuse.com/~/media/electronics/datasheets/tvs_diodes/littelfuse_tvs_diode_1ksmb_datasheet.pdf.pdf; ComponentLink2Description: DigiKey Link; ComponentLink2URL: http://digikey.com/product-detail/en/littelfuse-inc/1KSMB75CA/1KSMB75CACT-ND/2699828; LastUpdated: 9/2/2020 1:28:17 AM; Lifecycle Status: Active; Minimum Order: 1; Mounting Type: Surface Mount; Operating Temperature: -55°C ~ 150°C (TJ); Package / Case: DO-214AA, SMB; Packaging: TapeAndReel; PartId: 9077; Part Status: Active; Price: 0.30; Series: 1KSMB; Supplier 1: DigiKey; Supplier Part Number 1: 1KSMB75CACT-ND; Supplier Device Package: DO-214AA (SMBJ); Voltage - Clamping (Max) @ Ipp: 103V; Voltage - Reverse Standoff (Typ): 64.1V
footprint DO214AA SMB
pins: 1, 2

## 1KSMB100A
designator D?
TVS DIODE 85.5V 137V DO214AA; Manufacturer: Littelfuse Inc.; Current - Peak Pulse (10/1000µs): 7.3A; Power Line Protection: No; Power - Peak Pulse: 1000W (1kW); Type: Zener; Unidirectional Channels: 1; Voltage - Breakdown (Min): 95V; Part Number: 1KSMB100A; Applications: General Purpose; ComponentLink1Description: Datasheet; ComponentLink1URL: https://www.littelfuse.com/~/media/electronics/datasheets/tvs_diodes/littelfuse_tvs_diode_1ksmb_datasheet.pdf.pdf; ComponentLink2Description: DigiKey Link; ComponentLink2URL: http://digikey.com/product-detail/en/littelfuse-inc/1KSMB100A/1KSMB100ACT-ND/2699821; LastUpdated: 9/2/2020 1:19:43 AM; Lifecycle Status: Active; Minimum Order: 1; Mounting Type: Surface Mount; Operating Temperature: -55°C ~ 150°C (TJ); Package / Case: DO-214AA, SMB; Packaging: TapeAndReel; PartId: 10569; Part Status: Active; Price: 0.25; Series: 1KSMB; Supplier 1: DigiKey; Supplier Part Number 1: 1KSMB100ACT-ND; Supplier Device Package: DO-214AA (SMBJ); Voltage - Clamping (Max) @ Ipp: 137V; Voltage - Reverse Standoff (Typ): 85.5V
footprint DO214AA SMB
pins: 1, 2

## 1KSMB120CA
designator D?
TVS DIODE 102V 165V DO214AA; Manufacturer: Littelfuse Inc.; Bidirectional Channels: 1; Current - Peak Pulse (10/1000µs): 6.1A; Power Line Protection: No; Power - Peak Pulse: 1000W (1kW); Type: Zener; Voltage - Breakdown (Min): 114V; Part Number: 1KSMB120CA; Applications: General Purpose; ComponentLink1Description: Datasheet; ComponentLink1URL: https://www.littelfuse.com/~/media/electronics/datasheets/tvs_diodes/littelfuse_tvs_diode_1ksmb_datasheet.pdf.pdf; ComponentLink2Description: DigiKey Link; ComponentLink2URL: http://digikey.com/product-detail/en/littelfuse-inc/1KSMB120CA/1KSMB120CACT-ND/2699822; LastUpdated: 9/2/2020 1:28:22 AM; Lifecycle Status: Active; Minimum Order: 1; Mounting Type: Surface Mount; Operating Temperature: -55°C ~ 150°C (TJ); Package / Case: DO-214AA, SMB; Packaging: TapeAndReel; PartId: 9629; Part Status: Active; Price: 0.30; Series: 1KSMB; Supplier 1: DigiKey; Supplier Part Number 1: 1KSMB120CACT-ND; Supplier Device Package: DO-214AA (SMBJ); Voltage - Clamping (Max) @ Ipp: 165V; Voltage - Reverse Standoff (Typ): 102V
footprint DO214AA SMB
pins: 1, 2

## 1KSMB130CA
designator D?
TVS DIODE 111V 179V DO214AA; Manufacturer: Littelfuse Inc.; Bidirectional Channels: 1; Current - Peak Pulse (10/1000µs): 5.6A; Power Line Protection: No; Power - Peak Pulse: 1000W (1kW); Type: Zener; Voltage - Breakdown (Min): 124V; Part Number: 1KSMB130CA; Applications: General Purpose; ComponentLink1Description: Datasheet; ComponentLink1URL: https://www.littelfuse.com/~/media/electronics/datasheets/tvs_diodes/littelfuse_tvs_diode_1ksmb_datasheet.pdf.pdf; ComponentLink2Description: DigiKey Link; ComponentLink2URL: http://digikey.com/product-detail/en/littelfuse-inc/1KSMB130CA/1KSMB130CACT-ND/2699872; LastUpdated: 9/2/2020 1:28:22 AM; Lifecycle Status: Active; Minimum Order: 1; Mounting Type: Surface Mount; Operating Temperature: -55°C ~ 150°C (TJ); Package / Case: DO-214AA, SMB; Packaging: TapeAndReel; PartId: 9628; Part Status: Active; Price: 0.30; Series: 1KSMB; Supplier 1: DigiKey; Supplier Part Number 1: 1KSMB130CACT-ND; Supplier Device Package: DO-214AA (SMBJ); Voltage - Clamping (Max) @ Ipp: 179V; Voltage - Reverse Standoff (Typ): 111V
footprint DO214AA SMB
pins: 1, 2

## 1KSMB160A
designator D?
TVS DIODE 136V 219V DO214AA; Manufacturer: Littelfuse Inc.; Current - Peak Pulse (10/1000µs): 4.6A; Power Line Protection: No; Power - Peak Pulse: 1000W (1kW); Type: Zener; Unidirectional Channels: 1; Voltage - Breakdown (Min): 152V; Part Number: 1KSMB160A; Applications: General Purpose; ComponentLink1Description: Datasheet; ComponentLink1URL: https://www.littelfuse.com/~/media/electronics/datasheets/tvs_diodes/littelfuse_tvs_diode_1ksmb_datasheet.pdf.pdf; ComponentLink2Description: DigiKey Link; ComponentLink2URL: http://digikey.com/product-detail/en/littelfuse-inc/1KSMB160A/1KSMB160ACT-ND/2699869; LastUpdated: 9/2/2020 1:19:43 AM; Lifecycle Status: Active; Minimum Order: 1; Mounting Type: Surface Mount; Operating Temperature: -55°C ~ 150°C (TJ); Package / Case: DO-214AA, SMB; Packaging: TapeAndReel; PartId: 10568; Part Status: Active; Price: 0.25; Series: 1KSMB; Supplier 1: DigiKey; Supplier Part Number 1: 1KSMB160ACT-ND; Supplier Device Package: DO-214AA (SMBJ); Voltage - Clamping (Max) @ Ipp: 219V; Voltage - Reverse Standoff (Typ): 136V
footprint DO214AA SMB
pins: 1, 2